# Altium footprint library TO-92_1.PcbLib: 1 footprints
Each footprint in its own frame and in the unit in brackets; x right, y up, seen from the top. Pads: shape width x height; smd on the part's side, far side on the other; paste and mask are expansions set on the pad; w line width, h text height; cw(c..) or ccw(c..) is an arc to the next point about the centre after c.
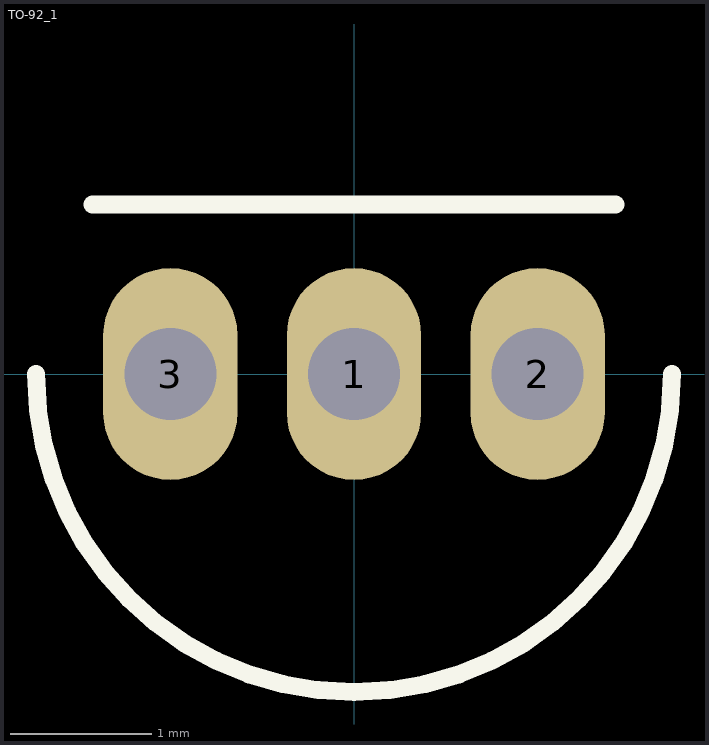
[diagram p0: the footprint, top view; thin cyan lines are the x and y axes]

## TO-92_1 [mm] "TO-92 straight leads"
pads (3):
  oval 0.95x1.5 hole 0.65 mask+0.08: 1(0,0) 2(1.3,0) 3(-1.3,0)
Top Overlay:
  lines w0.127: -2.252,0 ccw(c0,0) 2.252,0 ; -1.85,1.2 1.85,1.2
3D body "TO-92.stp": height 6.18, standoff -3, extent -2.282,-2.35 2.29,1.21